# Altium footprint library QSOP-24_150mil.PcbLib: 1 footprints
Each footprint in its own frame and in the unit in brackets; x right, y up, seen from the top. Pads: shape width x height; smd on the part's side, far side on the other; paste and mask are expansions set on the pad; w line width, h text height; cw(c..) or ccw(c..) is an arc to the next point about the centre after c.
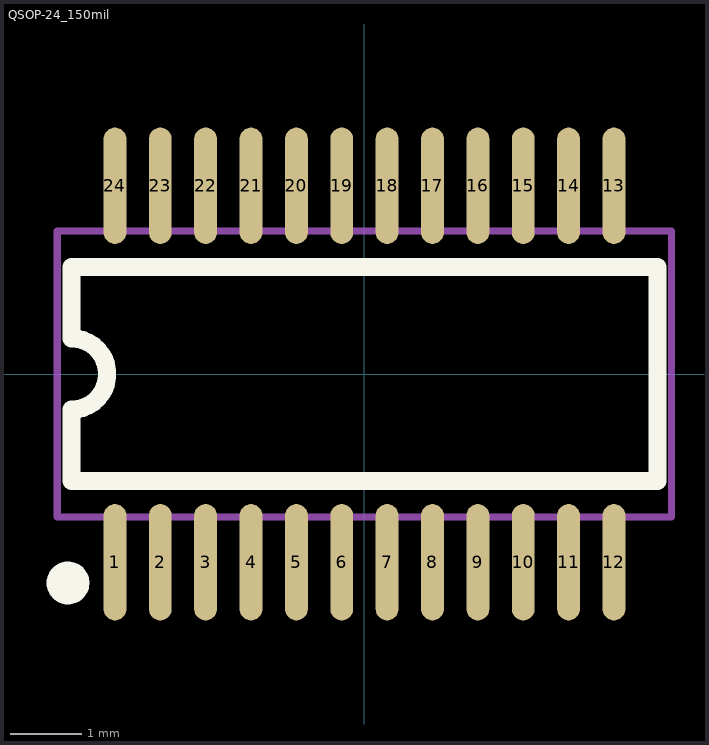
[diagram p0: the footprint, top view; thin cyan lines are the x and y axes]

## QSOP-24_150mil [mm]
pads (24):
  oval 0.32x1.63 smd: 1(-3.492,-2.635) 2(-2.857,-2.635) 3(-2.222,-2.635) 4(-1.587,-2.635) 5(-0.953,-2.635) 6(-0.318,-2.635) 7(0.318,-2.635) 8(0.953,-2.635) 9(1.587,-2.635) 10(2.222,-2.635) 11(2.857,-2.635) 12(3.492,-2.635) 13(3.492,2.635) 14(2.857,2.635) 15(2.222,2.635) 16(1.587,2.635) 17(0.953,2.635) 18(0.318,2.635) 19(-0.318,2.635) 20(-0.953,2.635) 21(-1.587,2.635) 22(-2.222,2.635) 23(-2.857,2.635) 24(-3.492,2.635)
Top Overlay:
  circle w0.3: c-4.15,-2.925 r0.15
  lines w0.254: -4.1,-1.5 4.1,-1.5 4.1,1.5 -4.1,1.5 -4.1,0.5 cw(c-4.1,0) -4.1,-0.5 -4.1,-1.5
Mechanical 13:
  lines w0.1: -4.3,-2 -4.3,2 4.3,2 4.3,-2 -4.3,-2